# EAGLE library part FTSH-105 (library J-IDC1.27mm)
10POS 1.27MM pitch Header for IDC socktest NOTE: through hole version suffers from solder bridges during most wave processes, use SMT. http://www.samtec.com/
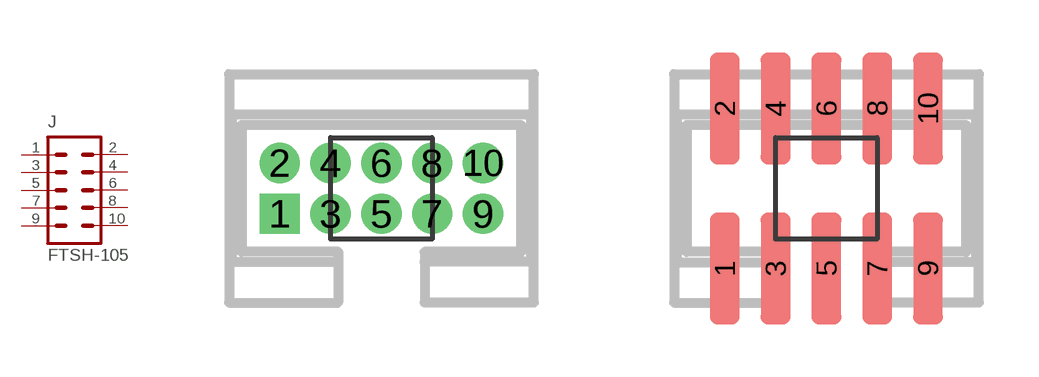
[diagram p0: symbol with the pads of 05-01-F-D-K; footprints 05-01-F-D-K, 05-01-F-DV-K]

Designator prefix J

## FTSH-105-01-F-D-K  [05-01-F-D-K]
1  1  pas
2  2  pas
3  3  pas
4  4  pas
5  5  pas
6  6  pas
7  7  pas
8  8  pas
9  9  pas
10  10  pas

## FTSH-105-01-F-DV-K  [05-01-F-DV-K]
Pads as for 05-01-F-D-K

## Footprint 05-01-F-D-K (pad centres in mm)
1.27MM Pitch, 0.6MM drill, diameter is auto (uses DRC restring) Samtec,FTSH-105-01-F-D-K WARNING: the IDC socket for 1.27mm pitch is not very durable, pogo pins this pitch have issues; both cause production problems. Wave solder bridges on the through hole version require manual touch up. 2MM is better, and 2.54MM is most durable and allows wire wrap test probes (low cost). Samtec puts the pcb layout info in another file isolated form the datasheet, it calls for .71MM drill but that can't be right... The Arduino Due has .6MM drill for this size of connector, but I'm showing .5MM so it will have to be manually forced in.
drill 0.5 square: 1 -2.54,-0.635
drill 0.5: 2 -2.54,0.635; 3 -1.27,-0.635; 4 -1.27,0.635; 5 0,-0.635; 6 0,0.635; 7 1.27,-0.635; 8 1.27,0.635; 9 2.54,-0.635; 10 2.54,0.635

## Footprint 05-01-F-DV-K (pad centres in mm)
1.27MM Pitch, 2.79MM X.74MM PAD 50% round, +/- 2MM offset FTSH-105-01-F-DV-K Note can't get the alignment pins to pass resonable DRC values so I think it will have problems. FTSH-105-01-F-DV-K-A (6.86-(2.79*2))/2 + (2.79/2) 1.27/2+1.395 about 2MM
smd 0.74 x 2.79: 1 -2.54,-2; 2 -2.54,2; 3 -1.27,-2; 4 -1.27,2; 5 0,-2; 6 0,2; 7 1.27,-2; 8 1.27,2; 9 2.54,-2; 10 2.54,2